# EAGLE library part SI8610 (library harp timestamp generator Gen3)
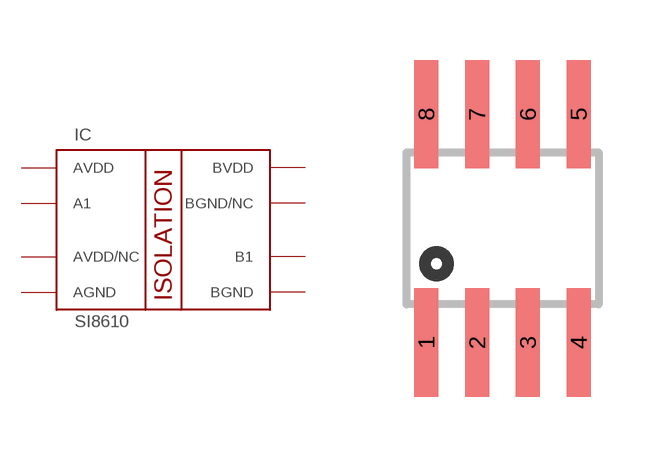
[diagram p2: symbol with the pads of SO-08; footprint SO-08]

Designator prefix IC

## SI8610  [SO-08]
1  AVDD
2  A1
3  AVDD/NC
4  AGND
5  BGND
6  B1
7  BGND/NC
8  BVDD

## Footprint SO-08 (pad centres in mm)
smd 0.6 x 2.708: 1 -1.905,-2.854; 2 -0.635,-2.854; 3 0.635,-2.854; 4 1.905,-2.854; 5 1.905,2.854; 6 0.635,2.854; 7 -0.635,2.854; 8 -1.905,2.854